# Altium integrated library Linear Technology Power Management LED Driver ICs.IntLib: 490 symbols (part 24 of 48)
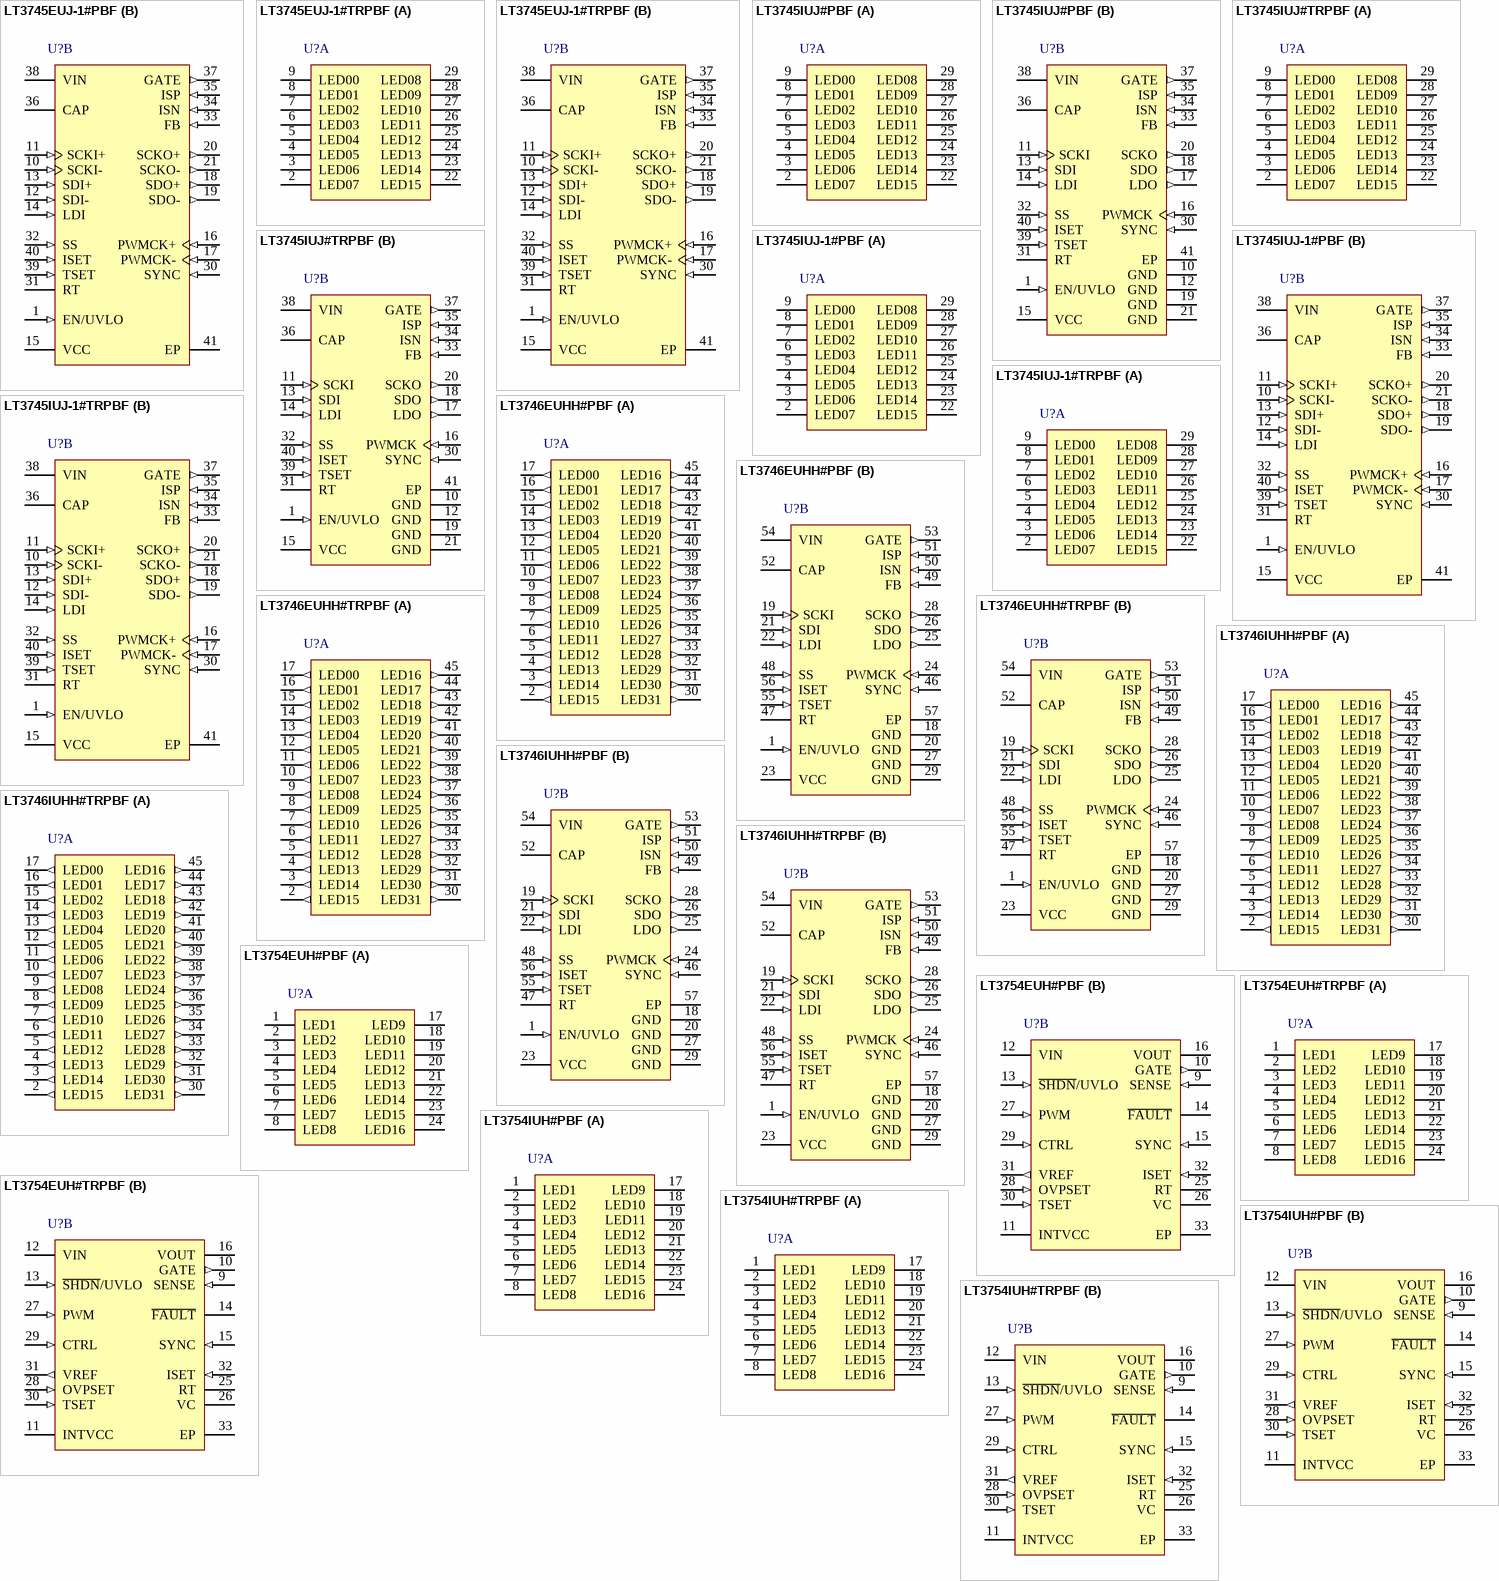
[diagram p43: symbols LT3745EUJ-1#PBF to LT3754IUH#TRPBF]

## LT3746EUHH#PBF
designator U?
32-Channel 20 mA LED Driver with Buck Controller, 6 to 55 V Vin, 13 V Vout MAX, 56-pin QFN (UHH-56), -40 to 125 degC, Pb-Free; Manufacturer: Linear Technology; PartNumber: LT3746EUHH#PBF; Topology: Buck, LED Driver; Vin Min(V): 6; DatasheetVersion: Rev. A; PackageVersion: Rev. A, 06/2010; PackageReference: UHH-56; PackageDescription: 56-Pin Plastic QFN, Body 5 x 9 mm, Pitch 0.4 mm; Supplier 1: Digi-Key; Supplier Part Number 1: LT3746EUHH#PBF-ND; Supplier 2: Newark; Supplier Part Number 2: 59T5830; RoHS: TRUE; Mounting Technology: Surface Mount; ComponentLink1Description: Manufacturer URL; ComponentLink1URL: http://www.linear.com/; ComponentLink2Description: Datasheet; ComponentLink2URL: http://cds.linear.com/docs/en/datasheet/3746fa.pdf; ComponentLink3Description: Package Specification; ComponentLink3URL: http://cds.linear.com/docs/en/packaging/QFN_56_05-08-1727.pdf
footprint LT-UHH-56_N (QFN, 56-Leads, Body 9.1x5.1mm, Pitch 0.4mm, Thermal Pad 7.13x3.45mm, IPC Medium Density)
footprint LT-UHH-56_L (QFN, 56-Leads, Body 9.1x5.1mm, Pitch 0.4mm, Thermal Pad 7.13x3.45mm, IPC High Density)
footprint LT-UHH-56_M (QFN, 56-Leads, Body 9.1x5.1mm, Pitch 0.4mm, Thermal Pad 7.13x3.45mm, IPC Low Density)
part A pins: 2 LED15 (out) "LED Driver Output Pins. Connect the cathodes of LED strings to these pins.", 3 LED14 (out) "LED Driver Output Pins. Connect the cathodes of LED strings to these pins.", 4 LED13 (out) "LED Driver Output Pins. Connect the cathodes of LED strings to these pins.", 5 LED12 (out) "LED Driver Output Pins. Connect the cathodes of LED strings to these pins.", 6 LED11 (out) "LED Driver Output Pins. Connect the cathodes of LED strings to these pins.", 7 LED10 (out) "LED Driver Output Pins. Connect the cathodes of LED strings to these pins.", 8 LED09 (out) "LED Driver Output Pins. Connect the cathodes of LED strings to these pins.", 9 LED08 (out) "LED Driver Output Pins. Connect the cathodes of LED strings to these pins.", 10 LED07 (out) "LED Driver Output Pins. Connect the cathodes of LED strings to these pins.", 11 LED06 (out) "LED Driver Output Pins. Connect the cathodes of LED strings to these pins.", 12 LED05 (out) "LED Driver Output Pins. Connect the cathodes of LED strings to these pins.", 13 LED04 (out) "LED Driver Output Pins. Connect the cathodes of LED strings to these pins.", 14 LED03 (out) "LED Driver Output Pins. Connect the cathodes of LED strings to these pins.", 15 LED02 (out) "LED Driver Output Pins. Connect the cathodes of LED strings to these pins.", 16 LED01 (out) "LED Driver Output Pins. Connect the cathodes of LED strings to these pins.", 17 LED00 (out) "LED Driver Output Pins. Connect the cathodes of LED strings to these pins.", 30 LED31 (out) "LED Driver Output Pins. Connect the cathodes of LED strings to these pins.", 31 LED30 (out) "LED Driver Output Pins. Connect the cathodes of LED strings to these pins.", 32 LED29 (out) "LED Driver Output Pins. Connect the cathodes of LED strings to these pins.", 33 LED28 (out) "LED Driver Output Pins. Connect the cathodes of LED strings to these pins.", 34 LED27 (out) "LED Driver Output Pins. Connect the cathodes of LED strings to these pins.", 35 LED26 (out) "LED Driver Output Pins. Connect the cathodes of LED strings to these pins.", 36 LED25 (out) "LED Driver Output Pins. Connect the cathodes of LED strings to these pins.", 37 LED24 (out) "LED Driver Output Pins. Connect the cathodes of LED strings to these pins.", 38 LED23 (out) "LED Driver Output Pins. Connect the cathodes of LED strings to these pins.", 39 LED22 (out) "LED Driver Output Pins. Connect the cathodes of LED strings to these pins.", 40 LED21 (out) "LED Driver Output Pins. Connect the cathodes of LED strings to these pins.", 41 LED20 (out) "LED Driver Output Pins. Connect the cathodes of LED strings to these pins.", 42 LED19 (out) "LED Driver Output Pins. Connect the cathodes of LED strings to these pins.", 43 LED18 (out) "LED Driver Output Pins. Connect the cathodes of LED strings to these pins.", 44 LED17 (out) "LED Driver Output Pins. Connect the cathodes of LED strings to these pins.", 45 LED16 (out) "LED Driver Output Pins. Connect the cathodes of LED strings to these pins."
part B pins: 1 EN/UVLO (in) "Enable and Undervoltage Lockout  (UVLO) Pin. The pin can accept a digital input signal to enable or disable the chip. Tie to 0.35V or lower to shut down the chip or tie to 1.34V or higher for normal operation. This pin can (See Datasheet)", 18 GND (power) "Ground Pin.", 19 SCKI (in) "Serial Interface TTL/CMOS Logic Clock  Input Pin.", 20 GND (power) "Ground Pin.", 21 SDI (in) "Serial Interface TTL/CMOS Logic Data  Input Pin.", 22 LDI (in) "Serial Interface TTL/CMOS Logic Latch Input Pin. An asynchronous input signal at this pin latches the  serial data in the shift registers into the proper registers  and the status information is ready to shift out with the (See Datasheet)", 23 VCC (power) "Logic and Control Supply Pin. The pin powers serial data interface and internal control circuitry. Must be  locally bypassed with a capacitor to ground.", 24 PWMCK (in) "Grayscale PWM Dimming TTL/CMOS Logic Clock Pin. Individual PWM dimming signal is generated by counting this clock pulse from zero to the bits in  its 12-bit grayscale PWM register.", 25 LDO (out) "Serial Interface TTL/CMOS Logic Latch Output Pin.", 26 SDO (out) "Serial Interface TTL/CMOS Logic Data Output Pin.", 27 GND (power) "Ground Pin.", 28 SCKO (out) "Serial Interface TTL/CMOS Logic Clock Output Pin.", 29 GND (power) "Ground Pin.", 46 SYNC (in) "Switching Frequency Synchronization Pin. Synchronizes the internal oscillator frequency to an  external clock applied to the SYNC pin. The SYNC pin is  TTL/CMOS logic compatible. Tie to ground or VCC if not  used.", 47 RT "Timing Resistor Pin. Programs the switching  frequency from 200kHz to 1MHz. See Table 2 for the recommended RT  values for common switching frequencies.", 48 SS (in) "Soft Start Pin. Placing a capacitor here programs soft start timing to limit inductor inrush current during startup. The soft start cycle will not begin until all  the VCC, EN/UVLO, and (VIN  - VCAP) voltages are higher  (See Datasheet)", 49 FB (in) "Feedback Pin. The pin is regulated to the internal band-gap reference 1.205V during startup and precharging phases. Connect to a resistor divider from  the buck converter output to program the maximum LED  bus voltage. See (See Datasheet)", 50 ISN (in) "Negative Inductor Current Sense Pin. The pin is connected to one terminal of the external inductor current sensing resistor and the buck converter output  supplying parallel LED channels.", 51 ISP (in) "Positive Inductor Current Sense Pin. The pin  is connected to the inductor and the other terminal of the external inductor current sensing resistor.", 52 CAP "VIN Referenced Regulator Supply Capacitor Pin. The pin holds the negative terminal of an internal VIN referenced 6.8V linear regulator used to bias the gate driver  circuitry. Must be locally bypassed with a capacitor to VIN", 53 GATE (out) "Gate Driver Pin. The pin drives an external P-channel power MOSFET with a typical peak current of 1A. Connect this pin to the gate of the power MOSFET with a  short and wide PCB trace to minimize trace inductance.", 54 VIN (power) "Power Input Supply Pin. Must be locally bypassed with a capacitor to ground.", 55 TSET (in) "Temperature Threshold Setting Pin. A  resistor to ground programs overtemperature threshold.  See more details in the Applications Information section.", 56 ISET (in) "Nominal LED Current Setting Pin. A resistor to ground programs the nominal LED current for all the  channels. See more details in the Applications Information section.", 57 EP (power) "Ground Pin. Must be soldered to a continuous copper ground plane to reduce die temperature  and to increase the power capability of the device."

## LT3746EUHH#TRPBF
designator U?
32-Channel 20 mA LED Driver with Buck Controller, 6 to 55 V Vin, 13 V Vout MAX, 56-pin QFN (UHH-56), -40 to 125 degC, Pb-Free, Tape and Reel; Manufacturer: Linear Technology; PartNumber: LT3746EUHH#TRPBF; Topology: Buck, LED Driver; Vin Min(V): 6; DatasheetVersion: Rev. A; PackageVersion: Rev. A, 06/2010; PackageReference: UHH-56; PackageDescription: 56-Pin Plastic QFN, Body 5 x 9 mm, Pitch 0.4 mm; Supplier 1: Digi-Key; Supplier Part Number 1: LT3746EUHH#TRPBF-ND; Packing: Tape and Reel; RoHS: TRUE; Mounting Technology: Surface Mount; ComponentLink1Description: Manufacturer URL; ComponentLink1URL: http://www.linear.com/; ComponentLink2Description: Datasheet; ComponentLink2URL: http://cds.linear.com/docs/en/datasheet/3746fa.pdf; ComponentLink3Description: Package Specification; ComponentLink3URL: http://cds.linear.com/docs/en/packaging/QFN_56_05-08-1727.pdf
footprint LT-UHH-56_N (QFN, 56-Leads, Body 9.1x5.1mm, Pitch 0.4mm, Thermal Pad 7.13x3.45mm, IPC Medium Density)
footprint LT-UHH-56_L (QFN, 56-Leads, Body 9.1x5.1mm, Pitch 0.4mm, Thermal Pad 7.13x3.45mm, IPC High Density)
footprint LT-UHH-56_M (QFN, 56-Leads, Body 9.1x5.1mm, Pitch 0.4mm, Thermal Pad 7.13x3.45mm, IPC Low Density)
part A pins: 2 LED15 (out) "LED Driver Output Pins. Connect the cathodes of LED strings to these pins.", 3 LED14 (out) "LED Driver Output Pins. Connect the cathodes of LED strings to these pins.", 4 LED13 (out) "LED Driver Output Pins. Connect the cathodes of LED strings to these pins.", 5 LED12 (out) "LED Driver Output Pins. Connect the cathodes of LED strings to these pins.", 6 LED11 (out) "LED Driver Output Pins. Connect the cathodes of LED strings to these pins.", 7 LED10 (out) "LED Driver Output Pins. Connect the cathodes of LED strings to these pins.", 8 LED09 (out) "LED Driver Output Pins. Connect the cathodes of LED strings to these pins.", 9 LED08 (out) "LED Driver Output Pins. Connect the cathodes of LED strings to these pins.", 10 LED07 (out) "LED Driver Output Pins. Connect the cathodes of LED strings to these pins.", 11 LED06 (out) "LED Driver Output Pins. Connect the cathodes of LED strings to these pins.", 12 LED05 (out) "LED Driver Output Pins. Connect the cathodes of LED strings to these pins.", 13 LED04 (out) "LED Driver Output Pins. Connect the cathodes of LED strings to these pins.", 14 LED03 (out) "LED Driver Output Pins. Connect the cathodes of LED strings to these pins.", 15 LED02 (out) "LED Driver Output Pins. Connect the cathodes of LED strings to these pins.", 16 LED01 (out) "LED Driver Output Pins. Connect the cathodes of LED strings to these pins.", 17 LED00 (out) "LED Driver Output Pins. Connect the cathodes of LED strings to these pins.", 30 LED31 (out) "LED Driver Output Pins. Connect the cathodes of LED strings to these pins.", 31 LED30 (out) "LED Driver Output Pins. Connect the cathodes of LED strings to these pins.", 32 LED29 (out) "LED Driver Output Pins. Connect the cathodes of LED strings to these pins.", 33 LED28 (out) "LED Driver Output Pins. Connect the cathodes of LED strings to these pins.", 34 LED27 (out) "LED Driver Output Pins. Connect the cathodes of LED strings to these pins.", 35 LED26 (out) "LED Driver Output Pins. Connect the cathodes of LED strings to these pins.", 36 LED25 (out) "LED Driver Output Pins. Connect the cathodes of LED strings to these pins.", 37 LED24 (out) "LED Driver Output Pins. Connect the cathodes of LED strings to these pins.", 38 LED23 (out) "LED Driver Output Pins. Connect the cathodes of LED strings to these pins.", 39 LED22 (out) "LED Driver Output Pins. Connect the cathodes of LED strings to these pins.", 40 LED21 (out) "LED Driver Output Pins. Connect the cathodes of LED strings to these pins.", 41 LED20 (out) "LED Driver Output Pins. Connect the cathodes of LED strings to these pins.", 42 LED19 (out) "LED Driver Output Pins. Connect the cathodes of LED strings to these pins.", 43 LED18 (out) "LED Driver Output Pins. Connect the cathodes of LED strings to these pins.", 44 LED17 (out) "LED Driver Output Pins. Connect the cathodes of LED strings to these pins.", 45 LED16 (out) "LED Driver Output Pins. Connect the cathodes of LED strings to these pins."
part B pins: 1 EN/UVLO (in) "Enable and Undervoltage Lockout  (UVLO) Pin. The pin can accept a digital input signal to enable or disable the chip. Tie to 0.35V or lower to shut down the chip or tie to 1.34V or higher for normal operation. This pin can (See Datasheet)", 18 GND (power) "Ground Pin.", 19 SCKI (in) "Serial Interface TTL/CMOS Logic Clock  Input Pin.", 20 GND (power) "Ground Pin.", 21 SDI (in) "Serial Interface TTL/CMOS Logic Data  Input Pin.", 22 LDI (in) "Serial Interface TTL/CMOS Logic Latch Input Pin. An asynchronous input signal at this pin latches the  serial data in the shift registers into the proper registers  and the status information is ready to shift out with the (See Datasheet)", 23 VCC (power) "Logic and Control Supply Pin. The pin powers serial data interface and internal control circuitry. Must be  locally bypassed with a capacitor to ground.", 24 PWMCK (in) "Grayscale PWM Dimming TTL/CMOS Logic Clock Pin. Individual PWM dimming signal is generated by counting this clock pulse from zero to the bits in  its 12-bit grayscale PWM register.", 25 LDO (out) "Serial Interface TTL/CMOS Logic Latch Output Pin.", 26 SDO (out) "Serial Interface TTL/CMOS Logic Data Output Pin.", 27 GND (power) "Ground Pin.", 28 SCKO (out) "Serial Interface TTL/CMOS Logic Clock Output Pin.", 29 GND (power) "Ground Pin.", 46 SYNC (in) "Switching Frequency Synchronization Pin. Synchronizes the internal oscillator frequency to an  external clock applied to the SYNC pin. The SYNC pin is  TTL/CMOS logic compatible. Tie to ground or VCC if not  used.", 47 RT "Timing Resistor Pin. Programs the switching  frequency from 200kHz to 1MHz. See Table 2 for the recommended RT  values for common switching frequencies.", 48 SS (in) "Soft Start Pin. Placing a capacitor here programs soft start timing to limit inductor inrush current during startup. The soft start cycle will not begin until all  the VCC, EN/UVLO, and (VIN  - VCAP) voltages are higher  (See Datasheet)", 49 FB (in) "Feedback Pin. The pin is regulated to the internal band-gap reference 1.205V during startup and precharging phases. Connect to a resistor divider from  the buck converter output to program the maximum LED  bus voltage. See (See Datasheet)", 50 ISN (in) "Negative Inductor Current Sense Pin. The pin is connected to one terminal of the external inductor current sensing resistor and the buck converter output  supplying parallel LED channels.", 51 ISP (in) "Positive Inductor Current Sense Pin. The pin  is connected to the inductor and the other terminal of the external inductor current sensing resistor.", 52 CAP "VIN Referenced Regulator Supply Capacitor Pin. The pin holds the negative terminal of an internal VIN referenced 6.8V linear regulator used to bias the gate driver  circuitry. Must be locally bypassed with a capacitor to VIN", 53 GATE (out) "Gate Driver Pin. The pin drives an external P-channel power MOSFET with a typical peak current of 1A. Connect this pin to the gate of the power MOSFET with a  short and wide PCB trace to minimize trace inductance.", 54 VIN (power) "Power Input Supply Pin. Must be locally bypassed with a capacitor to ground.", 55 TSET (in) "Temperature Threshold Setting Pin. A  resistor to ground programs overtemperature threshold.  See more details in the Applications Information section.", 56 ISET (in) "Nominal LED Current Setting Pin. A resistor to ground programs the nominal LED current for all the  channels. See more details in the Applications Information section.", 57 EP (power) "Ground Pin. Must be soldered to a continuous copper ground plane to reduce die temperature  and to increase the power capability of the device."

## LT3746IUHH#PBF
designator U?
32-Channel 20 mA LED Driver with Buck Controller, 6 to 55 V Vin, 13 V Vout MAX, 56-pin QFN (UHH-56), -40 to 125 degC, Pb-Free; Manufacturer: Linear Technology; PartNumber: LT3746IUHH#PBF; Topology: Buck, LED Driver; Vin Min(V): 6; DatasheetVersion: Rev. A; PackageVersion: Rev. A, 06/2010; PackageReference: UHH-56; PackageDescription: 56-Pin Plastic QFN, Body 5 x 9 mm, Pitch 0.4 mm; Supplier 1: Digi-Key; Supplier Part Number 1: LT3746IUHH#PBF-ND; RoHS: TRUE; Mounting Technology: Surface Mount; ComponentLink1Description: Manufacturer URL; ComponentLink1URL: http://www.linear.com/; ComponentLink2Description: Datasheet; ComponentLink2URL: http://cds.linear.com/docs/en/datasheet/3746fa.pdf; ComponentLink3Description: Package Specification; ComponentLink3URL: http://cds.linear.com/docs/en/packaging/QFN_56_05-08-1727.pdf
footprint LT-UHH-56_N (QFN, 56-Leads, Body 9.1x5.1mm, Pitch 0.4mm, Thermal Pad 7.13x3.45mm, IPC Medium Density)
footprint LT-UHH-56_L (QFN, 56-Leads, Body 9.1x5.1mm, Pitch 0.4mm, Thermal Pad 7.13x3.45mm, IPC High Density)
footprint LT-UHH-56_M (QFN, 56-Leads, Body 9.1x5.1mm, Pitch 0.4mm, Thermal Pad 7.13x3.45mm, IPC Low Density)
part A pins: 2 LED15 (out) "LED Driver Output Pins. Connect the cathodes of LED strings to these pins.", 3 LED14 (out) "LED Driver Output Pins. Connect the cathodes of LED strings to these pins.", 4 LED13 (out) "LED Driver Output Pins. Connect the cathodes of LED strings to these pins.", 5 LED12 (out) "LED Driver Output Pins. Connect the cathodes of LED strings to these pins.", 6 LED11 (out) "LED Driver Output Pins. Connect the cathodes of LED strings to these pins.", 7 LED10 (out) "LED Driver Output Pins. Connect the cathodes of LED strings to these pins.", 8 LED09 (out) "LED Driver Output Pins. Connect the cathodes of LED strings to these pins.", 9 LED08 (out) "LED Driver Output Pins. Connect the cathodes of LED strings to these pins.", 10 LED07 (out) "LED Driver Output Pins. Connect the cathodes of LED strings to these pins.", 11 LED06 (out) "LED Driver Output Pins. Connect the cathodes of LED strings to these pins.", 12 LED05 (out) "LED Driver Output Pins. Connect the cathodes of LED strings to these pins.", 13 LED04 (out) "LED Driver Output Pins. Connect the cathodes of LED strings to these pins.", 14 LED03 (out) "LED Driver Output Pins. Connect the cathodes of LED strings to these pins.", 15 LED02 (out) "LED Driver Output Pins. Connect the cathodes of LED strings to these pins.", 16 LED01 (out) "LED Driver Output Pins. Connect the cathodes of LED strings to these pins.", 17 LED00 (out) "LED Driver Output Pins. Connect the cathodes of LED strings to these pins.", 30 LED31 (out) "LED Driver Output Pins. Connect the cathodes of LED strings to these pins.", 31 LED30 (out) "LED Driver Output Pins. Connect the cathodes of LED strings to these pins.", 32 LED29 (out) "LED Driver Output Pins. Connect the cathodes of LED strings to these pins.", 33 LED28 (out) "LED Driver Output Pins. Connect the cathodes of LED strings to these pins.", 34 LED27 (out) "LED Driver Output Pins. Connect the cathodes of LED strings to these pins.", 35 LED26 (out) "LED Driver Output Pins. Connect the cathodes of LED strings to these pins.", 36 LED25 (out) "LED Driver Output Pins. Connect the cathodes of LED strings to these pins.", 37 LED24 (out) "LED Driver Output Pins. Connect the cathodes of LED strings to these pins.", 38 LED23 (out) "LED Driver Output Pins. Connect the cathodes of LED strings to these pins.", 39 LED22 (out) "LED Driver Output Pins. Connect the cathodes of LED strings to these pins.", 40 LED21 (out) "LED Driver Output Pins. Connect the cathodes of LED strings to these pins.", 41 LED20 (out) "LED Driver Output Pins. Connect the cathodes of LED strings to these pins.", 42 LED19 (out) "LED Driver Output Pins. Connect the cathodes of LED strings to these pins.", 43 LED18 (out) "LED Driver Output Pins. Connect the cathodes of LED strings to these pins.", 44 LED17 (out) "LED Driver Output Pins. Connect the cathodes of LED strings to these pins.", 45 LED16 (out) "LED Driver Output Pins. Connect the cathodes of LED strings to these pins."
part B pins: 1 EN/UVLO (in) "Enable and Undervoltage Lockout  (UVLO) Pin. The pin can accept a digital input signal to enable or disable the chip. Tie to 0.35V or lower to shut down the chip or tie to 1.34V or higher for normal operation. This pin can (See Datasheet)", 18 GND (power) "Ground Pin.", 19 SCKI (in) "Serial Interface TTL/CMOS Logic Clock  Input Pin.", 20 GND (power) "Ground Pin.", 21 SDI (in) "Serial Interface TTL/CMOS Logic Data  Input Pin.", 22 LDI (in) "Serial Interface TTL/CMOS Logic Latch Input Pin. An asynchronous input signal at this pin latches the  serial data in the shift registers into the proper registers  and the status information is ready to shift out with the (See Datasheet)", 23 VCC (power) "Logic and Control Supply Pin. The pin powers serial data interface and internal control circuitry. Must be  locally bypassed with a capacitor to ground.", 24 PWMCK (in) "Grayscale PWM Dimming TTL/CMOS Logic Clock Pin. Individual PWM dimming signal is generated by counting this clock pulse from zero to the bits in  its 12-bit grayscale PWM register.", 25 LDO (out) "Serial Interface TTL/CMOS Logic Latch Output Pin.", 26 SDO (out) "Serial Interface TTL/CMOS Logic Data Output Pin.", 27 GND (power) "Ground Pin.", 28 SCKO (out) "Serial Interface TTL/CMOS Logic Clock Output Pin.", 29 GND (power) "Ground Pin.", 46 SYNC (in) "Switching Frequency Synchronization Pin. Synchronizes the internal oscillator frequency to an  external clock applied to the SYNC pin. The SYNC pin is  TTL/CMOS logic compatible. Tie to ground or VCC if not  used.", 47 RT "Timing Resistor Pin. Programs the switching  frequency from 200kHz to 1MHz. See Table 2 for the recommended RT  values for common switching frequencies.", 48 SS (in) "Soft Start Pin. Placing a capacitor here programs soft start timing to limit inductor inrush current during startup. The soft start cycle will not begin until all  the VCC, EN/UVLO, and (VIN  - VCAP) voltages are higher  (See Datasheet)", 49 FB (in) "Feedback Pin. The pin is regulated to the internal band-gap reference 1.205V during startup and precharging phases. Connect to a resistor divider from  the buck converter output to program the maximum LED  bus voltage. See (See Datasheet)", 50 ISN (in) "Negative Inductor Current Sense Pin. The pin is connected to one terminal of the external inductor current sensing resistor and the buck converter output  supplying parallel LED channels.", 51 ISP (in) "Positive Inductor Current Sense Pin. The pin  is connected to the inductor and the other terminal of the external inductor current sensing resistor.", 52 CAP "VIN Referenced Regulator Supply Capacitor Pin. The pin holds the negative terminal of an internal VIN referenced 6.8V linear regulator used to bias the gate driver  circuitry. Must be locally bypassed with a capacitor to VIN", 53 GATE (out) "Gate Driver Pin. The pin drives an external P-channel power MOSFET with a typical peak current of 1A. Connect this pin to the gate of the power MOSFET with a  short and wide PCB trace to minimize trace inductance.", 54 VIN (power) "Power Input Supply Pin. Must be locally bypassed with a capacitor to ground.", 55 TSET (in) "Temperature Threshold Setting Pin. A  resistor to ground programs overtemperature threshold.  See more details in the Applications Information section.", 56 ISET (in) "Nominal LED Current Setting Pin. A resistor to ground programs the nominal LED current for all the  channels. See more details in the Applications Information section.", 57 EP (power) "Ground Pin. Must be soldered to a continuous copper ground plane to reduce die temperature  and to increase the power capability of the device."

## LT3746IUHH#TRPBF
designator U?
32-Channel 20 mA LED Driver with Buck Controller, 6 to 55 V Vin, 13 V Vout MAX, 56-pin QFN (UHH-56), -40 to 125 degC, Pb-Free, Tape and Reel; Manufacturer: Linear Technology; PartNumber: LT3746IUHH#TRPBF; Topology: Buck, LED Driver; Vin Min(V): 6; DatasheetVersion: Rev. A; PackageVersion: Rev. A, 06/2010; PackageReference: UHH-56; PackageDescription: 56-Pin Plastic QFN, Body 5 x 9 mm, Pitch 0.4 mm; Supplier 1: Digi-Key; Supplier Part Number 1: LT3746IUHH#TRPBF-ND; Packing: Tape and Reel; RoHS: TRUE; Mounting Technology: Surface Mount; ComponentLink1Description: Manufacturer URL; ComponentLink1URL: http://www.linear.com/; ComponentLink2Description: Datasheet; ComponentLink2URL: http://cds.linear.com/docs/en/datasheet/3746fa.pdf; ComponentLink3Description: Package Specification; ComponentLink3URL: http://cds.linear.com/docs/en/packaging/QFN_56_05-08-1727.pdf
footprint LT-UHH-56_N (QFN, 56-Leads, Body 9.1x5.1mm, Pitch 0.4mm, Thermal Pad 7.13x3.45mm, IPC Medium Density)
footprint LT-UHH-56_L (QFN, 56-Leads, Body 9.1x5.1mm, Pitch 0.4mm, Thermal Pad 7.13x3.45mm, IPC High Density)
footprint LT-UHH-56_M (QFN, 56-Leads, Body 9.1x5.1mm, Pitch 0.4mm, Thermal Pad 7.13x3.45mm, IPC Low Density)
part A pins: 2 LED15 (out) "LED Driver Output Pins. Connect the cathodes of LED strings to these pins.", 3 LED14 (out) "LED Driver Output Pins. Connect the cathodes of LED strings to these pins.", 4 LED13 (out) "LED Driver Output Pins. Connect the cathodes of LED strings to these pins.", 5 LED12 (out) "LED Driver Output Pins. Connect the cathodes of LED strings to these pins.", 6 LED11 (out) "LED Driver Output Pins. Connect the cathodes of LED strings to these pins.", 7 LED10 (out) "LED Driver Output Pins. Connect the cathodes of LED strings to these pins.", 8 LED09 (out) "LED Driver Output Pins. Connect the cathodes of LED strings to these pins.", 9 LED08 (out) "LED Driver Output Pins. Connect the cathodes of LED strings to these pins.", 10 LED07 (out) "LED Driver Output Pins. Connect the cathodes of LED strings to these pins.", 11 LED06 (out) "LED Driver Output Pins. Connect the cathodes of LED strings to these pins.", 12 LED05 (out) "LED Driver Output Pins. Connect the cathodes of LED strings to these pins.", 13 LED04 (out) "LED Driver Output Pins. Connect the cathodes of LED strings to these pins.", 14 LED03 (out) "LED Driver Output Pins. Connect the cathodes of LED strings to these pins.", 15 LED02 (out) "LED Driver Output Pins. Connect the cathodes of LED strings to these pins.", 16 LED01 (out) "LED Driver Output Pins. Connect the cathodes of LED strings to these pins.", 17 LED00 (out) "LED Driver Output Pins. Connect the cathodes of LED strings to these pins.", 30 LED31 (out) "LED Driver Output Pins. Connect the cathodes of LED strings to these pins.", 31 LED30 (out) "LED Driver Output Pins. Connect the cathodes of LED strings to these pins.", 32 LED29 (out) "LED Driver Output Pins. Connect the cathodes of LED strings to these pins.", 33 LED28 (out) "LED Driver Output Pins. Connect the cathodes of LED strings to these pins.", 34 LED27 (out) "LED Driver Output Pins. Connect the cathodes of LED strings to these pins.", 35 LED26 (out) "LED Driver Output Pins. Connect the cathodes of LED strings to these pins.", 36 LED25 (out) "LED Driver Output Pins. Connect the cathodes of LED strings to these pins.", 37 LED24 (out) "LED Driver Output Pins. Connect the cathodes of LED strings to these pins.", 38 LED23 (out) "LED Driver Output Pins. Connect the cathodes of LED strings to these pins.", 39 LED22 (out) "LED Driver Output Pins. Connect the cathodes of LED strings to these pins.", 40 LED21 (out) "LED Driver Output Pins. Connect the cathodes of LED strings to these pins.", 41 LED20 (out) "LED Driver Output Pins. Connect the cathodes of LED strings to these pins.", 42 LED19 (out) "LED Driver Output Pins. Connect the cathodes of LED strings to these pins.", 43 LED18 (out) "LED Driver Output Pins. Connect the cathodes of LED strings to these pins.", 44 LED17 (out) "LED Driver Output Pins. Connect the cathodes of LED strings to these pins.", 45 LED16 (out) "LED Driver Output Pins. Connect the cathodes of LED strings to these pins."
part B pins: 1 EN/UVLO (in) "Enable and Undervoltage Lockout  (UVLO) Pin. The pin can accept a digital input signal to enable or disable the chip. Tie to 0.35V or lower to shut down the chip or tie to 1.34V or higher for normal operation. This pin can (See Datasheet)", 18 GND (power) "Ground Pin.", 19 SCKI (in) "Serial Interface TTL/CMOS Logic Clock  Input Pin.", 20 GND (power) "Ground Pin.", 21 SDI (in) "Serial Interface TTL/CMOS Logic Data  Input Pin.", 22 LDI (in) "Serial Interface TTL/CMOS Logic Latch Input Pin. An asynchronous input signal at this pin latches the  serial data in the shift registers into the proper registers  and the status information is ready to shift out with the (See Datasheet)", 23 VCC (power) "Logic and Control Supply Pin. The pin powers serial data interface and internal control circuitry. Must be  locally bypassed with a capacitor to ground.", 24 PWMCK (in) "Grayscale PWM Dimming TTL/CMOS Logic Clock Pin. Individual PWM dimming signal is generated by counting this clock pulse from zero to the bits in  its 12-bit grayscale PWM register.", 25 LDO (out) "Serial Interface TTL/CMOS Logic Latch Output Pin.", 26 SDO (out) "Serial Interface TTL/CMOS Logic Data Output Pin.", 27 GND (power) "Ground Pin.", 28 SCKO (out) "Serial Interface TTL/CMOS Logic Clock Output Pin.", 29 GND (power) "Ground Pin.", 46 SYNC (in) "Switching Frequency Synchronization Pin. Synchronizes the internal oscillator frequency to an  external clock applied to the SYNC pin. The SYNC pin is  TTL/CMOS logic compatible. Tie to ground or VCC if not  used.", 47 RT "Timing Resistor Pin. Programs the switching  frequency from 200kHz to 1MHz. See Table 2 for the recommended RT  values for common switching frequencies.", 48 SS (in) "Soft Start Pin. Placing a capacitor here programs soft start timing to limit inductor inrush current during startup. The soft start cycle will not begin until all  the VCC, EN/UVLO, and (VIN  - VCAP) voltages are higher  (See Datasheet)", 49 FB (in) "Feedback Pin. The pin is regulated to the internal band-gap reference 1.205V during startup and precharging phases. Connect to a resistor divider from  the buck converter output to program the maximum LED  bus voltage. See (See Datasheet)", 50 ISN (in) "Negative Inductor Current Sense Pin. The pin is connected to one terminal of the external inductor current sensing resistor and the buck converter output  supplying parallel LED channels.", 51 ISP (in) "Positive Inductor Current Sense Pin. The pin  is connected to the inductor and the other terminal of the external inductor current sensing resistor.", 52 CAP "VIN Referenced Regulator Supply Capacitor Pin. The pin holds the negative terminal of an internal VIN referenced 6.8V linear regulator used to bias the gate driver  circuitry. Must be locally bypassed with a capacitor to VIN", 53 GATE (out) "Gate Driver Pin. The pin drives an external P-channel power MOSFET with a typical peak current of 1A. Connect this pin to the gate of the power MOSFET with a  short and wide PCB trace to minimize trace inductance.", 54 VIN (power) "Power Input Supply Pin. Must be locally bypassed with a capacitor to ground.", 55 TSET (in) "Temperature Threshold Setting Pin. A  resistor to ground programs overtemperature threshold.  See more details in the Applications Information section.", 56 ISET (in) "Nominal LED Current Setting Pin. A resistor to ground programs the nominal LED current for all the  channels. See more details in the Applications Information section.", 57 EP (power) "Ground Pin. Must be soldered to a continuous copper ground plane to reduce die temperature  and to increase the power capability of the device."

## LT3754EUH#PBF
designator U?
16-Channel x 50 mA LED Driver, 6 to 40 V Vin, 45 V Vout MAX, 32-pin QFN (UH-32), -40 to 125 degC, Pb-Free; Manufacturer: Linear Technology; PartNumber: LT3754EUH#PBF; Topology: Boost, LED Driver; Vin Min(V): 6; DatasheetVersion: Rev. C; PackageVersion: Rev. D, 06/2010; PackageReference: UH-32; PackageDescription: 32-Pin Plastic QFN, Body 5 x 5 mm, Pitch 0.5 mm; Supplier 1: Digi-Key; Supplier Part Number 1: LT3754EUH#PBF-ND; Supplier 2: Newark; Supplier Part Number 2: 72R5834; RoHS: TRUE; Mounting Technology: Surface Mount; Code_JEDEC: MO-220; ComponentLink1Description: Manufacturer URL; ComponentLink1URL: http://www.linear.com/; ComponentLink2Description: Datasheet; ComponentLink2URL: http://cds.linear.com/docs/en/datasheet/3754fc.pdf; ComponentLink3Description: Package Specification; ComponentLink3URL: http://cds.linear.com/docs/en/packaging/QFN_32_05-08-1693.pdf
footprint LT-UH-32_N (QFN, 32-Leads, Body 5.1x5.1mm, Pitch 0.5mm, Thermal Pad 3.45X3.45mm, IPC Medium Density)
footprint LT-UH-32_L (QFN, 32-Leads, Body 5.1x5.1mm, Pitch 0.5mm, Thermal Pad 3.45X3.45mm, IPC High Density)
footprint LT-UH-32_M (QFN, 32-Leads, Body 5.1x5.1mm, Pitch 0.5mm, Thermal Pad 3.45X3.45mm, IPC Low Density)
part A pins: 1 LED1 (oc) "16 LED Driver Outputs. Each output contains an open collector constant current sink. LED currents are programmable from 10mA to 50mA using a single resistor at the ISET pin. Connect the cathode of each LED string to an LED (See Datasheet)", 2 LED2 (oc) "16 LED Driver Outputs. Each output contains an open collector constant current sink. LED currents are programmable from 10mA to 50mA using a single resistor at the ISET pin. Connect the cathode of each LED string to an LED (See Datasheet)", 3 LED3 (oc) "16 LED Driver Outputs. Each output contains an open collector constant current sink. LED currents are programmable from 10mA to 50mA using a single resistor at the ISET pin. Connect the cathode of each LED string to an LED (See Datasheet)", 4 LED4 (oc) "16 LED Driver Outputs. Each output contains an open collector constant current sink. LED currents are programmable from 10mA to 50mA using a single resistor at the ISET pin. Connect the cathode of each LED string to an LED (See Datasheet)", 5 LED5 (oc) "16 LED Driver Outputs. Each output contains an open collector constant current sink. LED currents are programmable from 10mA to 50mA using a single resistor at the ISET pin. Connect the cathode of each LED string to an LED (See Datasheet)", 6 LED6 (oc) "16 LED Driver Outputs. Each output contains an open collector constant current sink. LED currents are programmable from 10mA to 50mA using a single resistor at the ISET pin. Connect the cathode of each LED string to an LED (See Datasheet)", 7 LED7 (oc) "16 LED Driver Outputs. Each output contains an open collector constant current sink. LED currents are programmable from 10mA to 50mA using a single resistor at the ISET pin. Connect the cathode of each LED string to an LED (See Datasheet)", 8 LED8 (oc) "16 LED Driver Outputs. Each output contains an open collector constant current sink. LED currents are programmable from 10mA to 50mA using a single resistor at the ISET pin. Connect the cathode of each LED string to an LED (See Datasheet)", 17 LED9 (oc) "16 LED Driver Outputs. Each output contains an open collector constant current sink. LED currents are programmable from 10mA to 50mA using a single resistor at the ISET pin. Connect the cathode of each LED string to an LED (See Datasheet)", 18 LED10 (oc) "16 LED Driver Outputs. Each output contains an open collector constant current sink. LED currents are programmable from 10mA to 50mA using a single resistor at the ISET pin. Connect the cathode of each LED string to an LED (See Datasheet)", 19 LED11 (oc) "16 LED Driver Outputs. Each output contains an open collector constant current sink. LED currents are programmable from 10mA to 50mA using a single resistor at the ISET pin. Connect the cathode of each LED string to an LED (See Datasheet)", 20 LED12 (oc) "16 LED Driver Outputs. Each output contains an open collector constant current sink. LED currents are programmable from 10mA to 50mA using a single resistor at the ISET pin. Connect the cathode of each LED string to an LED (See Datasheet)", 21 LED13 (oc) "16 LED Driver Outputs. Each output contains an open collector constant current sink. LED currents are programmable from 10mA to 50mA using a single resistor at the ISET pin. Connect the cathode of each LED string to an LED (See Datasheet)", 22 LED14 (oc) "16 LED Driver Outputs. Each output contains an open collector constant current sink. LED currents are programmable from 10mA to 50mA using a single resistor at the ISET pin. Connect the cathode of each LED string to an LED (See Datasheet)", 23 LED15 (oc) "16 LED Driver Outputs. Each output contains an open collector constant current sink. LED currents are programmable from 10mA to 50mA using a single resistor at the ISET pin. Connect the cathode of each LED string to an LED (See Datasheet)", 24 LED16 (oc) "16 LED Driver Outputs. Each output contains an open collector constant current sink. LED currents are programmable from 10mA to 50mA using a single resistor at the ISET pin. Connect the cathode of each LED string to an LED (See Datasheet)"
part B pins: 9 SENSE (in) "The Current Sense Input for the Control Loop. Connect this pin to the sense resistor in the source of the external power MOSFET.", 10 GATE (out) "Drives the gate of an N-channel MOSFET from 0V to INTVCC.", 11 INTVCC (power) "A 7V LDO supply generated from VIN and used to power the GATE driver and some control circuitry. Must be bypassed with a 4.7uF capacitor to GND.", 12 VIN (power) "Input Supply Pin. Must be locally bypassed with a 1uF capacitor to ground.", 13 ~{SHDN}/UVLO (in) "The S\H\D\N\/UVLO pin has an accurate 1.476V threshold and can be used to program an under voltage lockout (UVLO) threshold for system input supply using a resistor divider from supply to ground. A 2.4uA pin (See Datasheet)", 14 ~{FAULT} (oc) "Active low if any or all LED strings have an open fault. If fault(s) removed, F\A\U\L\T\ flag returns high.Fault status is only updated during PWM high state and latched during PWM low.", 15 SYNC (in) "Allows synchronization of boost converter switching frequency to an external clock. RT resistor should be programmed for fOSC 20% below SYNC frequency. If unused, connect to GND.", 16 VOUT (power) "Boosted Output Voltage of the Converter. Connect a capacitor from this pin to ground. Connect the anode of each LED (string) to VOUT.", 25 RT "A resistor to ground programs switching frequency fOSC between 0.1MHz and 1MHz.", 26 VC "Output of Both Transconductance Error Amplifiers for the Converter Regulation Loop. The most commonly used gm error amplifier (LED) regulates VOUT to ensure no LED pin falls below 1.1V. The other gm error amplifier (OVP) is (See Datasheet)", 27 PWM (in) "Input Pin for PWM Dimming Control. Above 1.4V allows converter switching and below 0.7V disables switching. The PWM signal can be driven from 0V to 6V. If unused, connect to VREF.", 28 OVPSET (in) "Programs maximum allowed VOUT regulation level if all LEDs are open circuit.", 29 CTRL (in) "CTRL pin voltage below 1V controls maximum LED current. CTRL voltage can be set by a resistor divider from VIN, VREF or an external voltage source. LED current derating versus temperature is achievable if the voltage (See Datasheet)", 30 TSET (in) "Programs LT3754 junction temperature breakpoint past which LED current will begin to derate.", 31 VREF (out) "1.485V Reference Output Pin. This pin can supply up to 150uA. Can be used to program CTRL, TSET and OVPSET pin voltages using resistor dividers to ground.", 32 ISET (in) "Resistor to Ground Programs LED pin current. See Table 6 in the Applications Information Section.", 33 EP (power) "GND. The ground for the IC and the converter. The package has an exposed pad (Pin 33) underneath the IC which is the best path for heat out of the package. Pin 33 should be soldered to a continuous copper ground plane under (See Datasheet)"

## LT3754EUH#TRPBF
designator U?
16-Channel x 50 mA LED Driver, 6 to 40 V Vin, 45 V Vout MAX, 32-pin QFN (UH-32), -40 to 125 degC, Pb-Free, Tape and Reel; Manufacturer: Linear Technology; PartNumber: LT3754EUH#TRPBF; Topology: Boost, LED Driver; Vin Min(V): 6; DatasheetVersion: Rev. C; PackageVersion: Rev. D, 06/2010; PackageReference: UH-32; PackageDescription: 32-Pin Plastic QFN, Body 5 x 5 mm, Pitch 0.5 mm; Supplier 1: Digi-Key; Supplier Part Number 1: LT3754EUH#TRPBF-ND; Packing: Tape and Reel; RoHS: TRUE; Mounting Technology: Surface Mount; Code_JEDEC: MO-220; ComponentLink1Description: Manufacturer URL; ComponentLink1URL: http://www.linear.com/; ComponentLink2Description: Datasheet; ComponentLink2URL: http://cds.linear.com/docs/en/datasheet/3754fc.pdf; ComponentLink3Description: Package Specification; ComponentLink3URL: http://cds.linear.com/docs/en/packaging/QFN_32_05-08-1693.pdf
footprint LT-UH-32_N (QFN, 32-Leads, Body 5.1x5.1mm, Pitch 0.5mm, Thermal Pad 3.45X3.45mm, IPC Medium Density)
footprint LT-UH-32_L (QFN, 32-Leads, Body 5.1x5.1mm, Pitch 0.5mm, Thermal Pad 3.45X3.45mm, IPC High Density)
footprint LT-UH-32_M (QFN, 32-Leads, Body 5.1x5.1mm, Pitch 0.5mm, Thermal Pad 3.45X3.45mm, IPC Low Density)
part A pins: 1 LED1 (oc) "16 LED Driver Outputs. Each output contains an open collector constant current sink. LED currents are programmable from 10mA to 50mA using a single resistor at the ISET pin. Connect the cathode of each LED string to an LED (See Datasheet)", 2 LED2 (oc) "16 LED Driver Outputs. Each output contains an open collector constant current sink. LED currents are programmable from 10mA to 50mA using a single resistor at the ISET pin. Connect the cathode of each LED string to an LED (See Datasheet)", 3 LED3 (oc) "16 LED Driver Outputs. Each output contains an open collector constant current sink. LED currents are programmable from 10mA to 50mA using a single resistor at the ISET pin. Connect the cathode of each LED string to an LED (See Datasheet)", 4 LED4 (oc) "16 LED Driver Outputs. Each output contains an open collector constant current sink. LED currents are programmable from 10mA to 50mA using a single resistor at the ISET pin. Connect the cathode of each LED string to an LED (See Datasheet)", 5 LED5 (oc) "16 LED Driver Outputs. Each output contains an open collector constant current sink. LED currents are programmable from 10mA to 50mA using a single resistor at the ISET pin. Connect the cathode of each LED string to an LED (See Datasheet)", 6 LED6 (oc) "16 LED Driver Outputs. Each output contains an open collector constant current sink. LED currents are programmable from 10mA to 50mA using a single resistor at the ISET pin. Connect the cathode of each LED string to an LED (See Datasheet)", 7 LED7 (oc) "16 LED Driver Outputs. Each output contains an open collector constant current sink. LED currents are programmable from 10mA to 50mA using a single resistor at the ISET pin. Connect the cathode of each LED string to an LED (See Datasheet)", 8 LED8 (oc) "16 LED Driver Outputs. Each output contains an open collector constant current sink. LED currents are programmable from 10mA to 50mA using a single resistor at the ISET pin. Connect the cathode of each LED string to an LED (See Datasheet)", 17 LED9 (oc) "16 LED Driver Outputs. Each output contains an open collector constant current sink. LED currents are programmable from 10mA to 50mA using a single resistor at the ISET pin. Connect the cathode of each LED string to an LED (See Datasheet)", 18 LED10 (oc) "16 LED Driver Outputs. Each output contains an open collector constant current sink. LED currents are programmable from 10mA to 50mA using a single resistor at the ISET pin. Connect the cathode of each LED string to an LED (See Datasheet)", 19 LED11 (oc) "16 LED Driver Outputs. Each output contains an open collector constant current sink. LED currents are programmable from 10mA to 50mA using a single resistor at the ISET pin. Connect the cathode of each LED string to an LED (See Datasheet)", 20 LED12 (oc) "16 LED Driver Outputs. Each output contains an open collector constant current sink. LED currents are programmable from 10mA to 50mA using a single resistor at the ISET pin. Connect the cathode of each LED string to an LED (See Datasheet)", 21 LED13 (oc) "16 LED Driver Outputs. Each output contains an open collector constant current sink. LED currents are programmable from 10mA to 50mA using a single resistor at the ISET pin. Connect the cathode of each LED string to an LED (See Datasheet)", 22 LED14 (oc) "16 LED Driver Outputs. Each output contains an open collector constant current sink. LED currents are programmable from 10mA to 50mA using a single resistor at the ISET pin. Connect the cathode of each LED string to an LED (See Datasheet)", 23 LED15 (oc) "16 LED Driver Outputs. Each output contains an open collector constant current sink. LED currents are programmable from 10mA to 50mA using a single resistor at the ISET pin. Connect the cathode of each LED string to an LED (See Datasheet)", 24 LED16 (oc) "16 LED Driver Outputs. Each output contains an open collector constant current sink. LED currents are programmable from 10mA to 50mA using a single resistor at the ISET pin. Connect the cathode of each LED string to an LED (See Datasheet)"
part B pins: 9 SENSE (in) "The Current Sense Input for the Control Loop. Connect this pin to the sense resistor in the source of the external power MOSFET.", 10 GATE (out) "Drives the gate of an N-channel MOSFET from 0V to INTVCC.", 11 INTVCC (power) "A 7V LDO supply generated from VIN and used to power the GATE driver and some control circuitry. Must be bypassed with a 4.7uF capacitor to GND.", 12 VIN (power) "Input Supply Pin. Must be locally bypassed with a 1uF capacitor to ground.", 13 ~{SHDN}/UVLO (in) "The S\H\D\N\/UVLO pin has an accurate 1.476V threshold and can be used to program an under voltage lockout (UVLO) threshold for system input supply using a resistor divider from supply to ground. A 2.4uA pin (See Datasheet)", 14 ~{FAULT} (oc) "Active low if any or all LED strings have an open fault. If fault(s) removed, F\A\U\L\T\ flag returns high.Fault status is only updated during PWM high state and latched during PWM low.", 15 SYNC (in) "Allows synchronization of boost converter switching frequency to an external clock. RT resistor should be programmed for fOSC 20% below SYNC frequency. If unused, connect to GND.", 16 VOUT (power) "Boosted Output Voltage of the Converter. Connect a capacitor from this pin to ground. Connect the anode of each LED (string) to VOUT.", 25 RT "A resistor to ground programs switching frequency fOSC between 0.1MHz and 1MHz.", 26 VC "Output of Both Transconductance Error Amplifiers for the Converter Regulation Loop. The most commonly used gm error amplifier (LED) regulates VOUT to ensure no LED pin falls below 1.1V. The other gm error amplifier (OVP) is (See Datasheet)", 27 PWM (in) "Input Pin for PWM Dimming Control. Above 1.4V allows converter switching and below 0.7V disables switching. The PWM signal can be driven from 0V to 6V. If unused, connect to VREF.", 28 OVPSET (in) "Programs maximum allowed VOUT regulation level if all LEDs are open circuit.", 29 CTRL (in) "CTRL pin voltage below 1V controls maximum LED current. CTRL voltage can be set by a resistor divider from VIN, VREF or an external voltage source. LED current derating versus temperature is achievable if the voltage (See Datasheet)", 30 TSET (in) "Programs LT3754 junction temperature breakpoint past which LED current will begin to derate.", 31 VREF (out) "1.485V Reference Output Pin. This pin can supply up to 150uA. Can be used to program CTRL, TSET and OVPSET pin voltages using resistor dividers to ground.", 32 ISET (in) "Resistor to Ground Programs LED pin current. See Table 6 in the Applications Information Section.", 33 EP (power) "GND. The ground for the IC and the converter. The package has an exposed pad (Pin 33) underneath the IC which is the best path for heat out of the package. Pin 33 should be soldered to a continuous copper ground plane under (See Datasheet)"